# EAGLE library part USB_MICROB_HORIZONTAL (library cTechnologies_connectors)
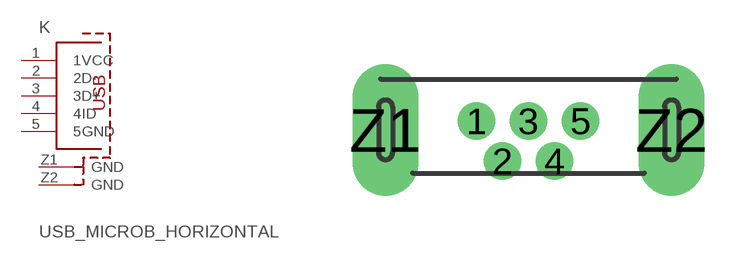
[diagram p11: symbol with the pads of USB_MICROB_HORIZONTAL; footprint USB_MICROB_HORIZONTAL]

Designator prefix K

## USB_MICROB_HORIZONTAL  [USB_MICROB_HORIZONTAL]
1  1VCC  pas
2  2D-  pas
3  3D+  pas
4  4ID  pas
5  5GND  pas
Z1  GND
Z2  GND

## Footprint USB_MICROB_HORIZONTAL (pad centres in mm)
drill 0.44 pad 0.94: 1 2.275,0.22; 2 2.925,-0.78; 3 3.575,0.22; 4 4.225,-0.78; 5 4.875,0.22
drill 1.1 pad 1.27 long: Z1 0,0; Z2 7.15,0